# Altium footprint library 0.96OLEDIIC_2024-03-10.PcbLib: 1 footprints
Each footprint in its own frame and in the unit in brackets; x right, y up, seen from the top. Pads: shape width x height; smd on the part's side, far side on the other; paste and mask are expansions set on the pad; w line width, h text height; cw(c..) or ccw(c..) is an arc to the next point about the centre after c.
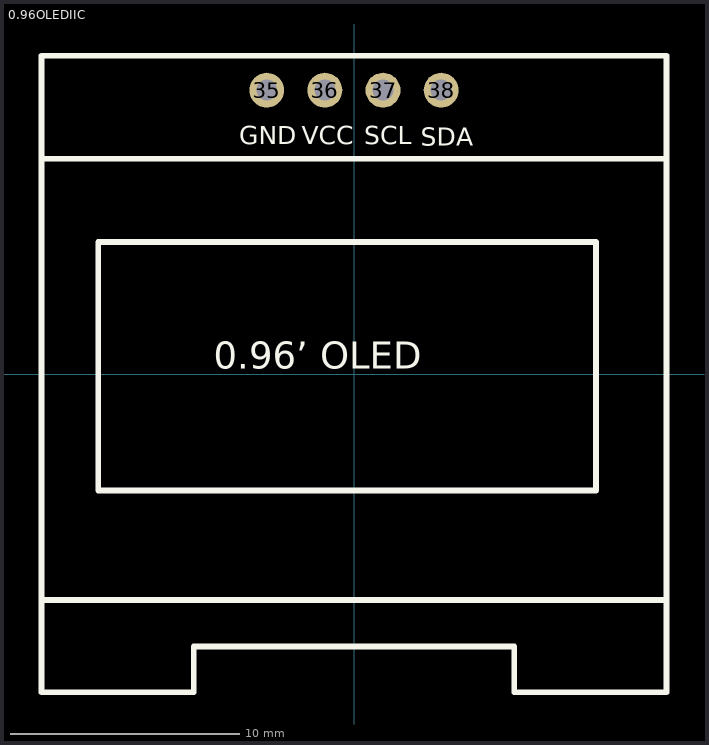
[diagram p0: the footprint, top view; thin cyan lines are the x and y axes]

## 0.96OLEDIIC [mil]
pads (4):
  round 60 hole 36 paste+0 mask+4: 35(-150.1,488.19) 36(-50.1,488.19) 37(49.9,488.19) 38(149.9,488.19)
Top Overlay:
  lines w10: -537.5,-547.24 -275.69,-547.24 -275.69,-468.5 275.49,-468.5 275.49,-547.24 537.3,-547.24 537.3,547.24 -537.5,547.24 -537.5,-547.24 ; -537.5,-388.51 -537.5,370.07 537.5,370.07 537.5,-388.51 -537.5,-388.51 ; -439.94,-200.48 -439.94,227.24 416.12,227.24 416.12,-200.48 -439.94,-200.48
  text "0.96’ OLED" at -241.1,-6.36 h80
  text "SDA" at 115,392.5 h31.5
  text "SCL" at 17.5,395 h31.5
  text "VCC" at -90,395 h31.5
  text "GND" at -197.5,395 h31.5